# EAGLE library part CU16025-UWJ6 (library PP_Displays)
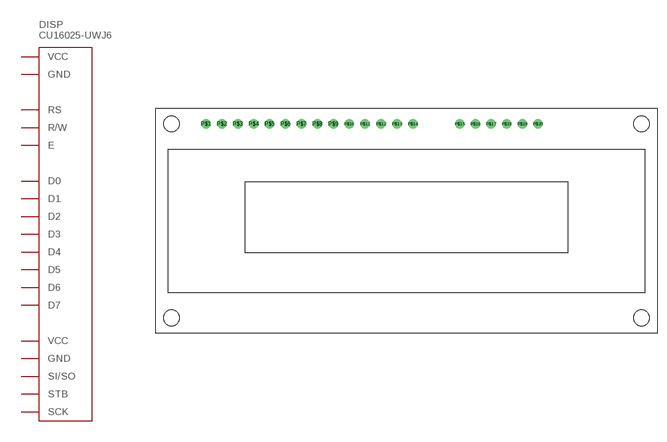
[diagram p5: symbol with the pads of CU16025-UW6J; footprint CU16025-UW6J]

Designator prefix DISP

## CU16025-UWJ6  [CU16025-UW6J]
P$1  GND1
P$2  VCC1
P$4  RS
P$5  R/W
P$6  E
P$7  D0
P$8  D1
P$9  D2
P$10  D3
P$11  D4
P$12  D5
P$13  D6
P$14  D7
P$16  SCK
P$17  STB
P$18  GND2
P$19  SI/SO
P$20  VCC2

## Footprint CU16025-UW6J (pad centres in mm)
drill 1: P$1 5.5,31; P$2 8.04,31; P$3 10.58,31; P$4 13.12,31; P$5 15.66,31; P$6 18.2,31; P$7 20.74,31; P$8 23.28,31; P$9 25.82,31; P$10 28.36,31; P$11 30.9,31; P$12 33.44,31; P$13 35.98,31; P$14 38.52,31; P$15 46,31; P$16 48.5,31; P$17 51,31; P$18 53.5,31; P$19 56,31; P$20 58.5,31
hole 2.5 at 0,0
hole 2.5 at 0,31
hole 2.5 at 75,31
hole 2.5 at 75,0